# EAGLE library part PIN_HEADER_1X6 (library sapphire)
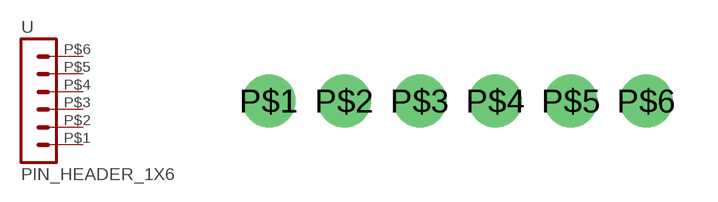
[diagram p12: symbol with the pads of PIN_HEADER_1X6; footprint PIN_HEADER_1X6]

Designator prefix -

## PIN_HEADER_1X6  [PIN_HEADER_1X6]
P$1  1  pas
P$2  2  pas
P$3  3  pas
P$4  4  pas
P$5  5  pas
P$6  6  pas

## Footprint PIN_HEADER_1X6 (pad centres in mm)
drill 1.016 pad 1.778: P$1 -6.35,0; P$2 -3.81,0; P$3 -1.27,0; P$4 1.27,0; P$5 3.81,0; P$6 6.35,0